# EAGLE library part 653008117322 (library Wire-to-Board (rev18a))
WR-WTB 1.25mm Male Horizontal Shrouded Header, 8 Pins=>Code : Con_WTB_1.25_PCB_THT_653008117322 <http://katalog.we-online.de/media/thumbs2/eican/thb_Con_WTB_1.25_PCB_THT_6530xx117322_pf2.jpg> Details see: http://katalog.we-online.de/en/em/WTB_1_25_MALE_HORIZONTAL_SHROUDED_HEADER_6530XX117322 Created 2014-06-06, Karrer Zheng 2014 (C) Würth Elektronik
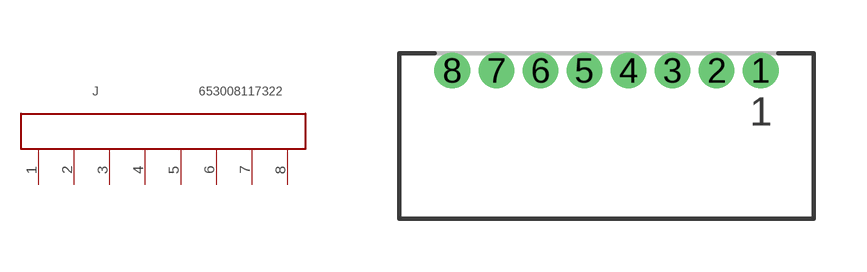
[diagram p88: symbol with the pads of 653008117322; footprint 653008117322]

Designator prefix J

## 653008117322  [653008117322]
1  8  pas
2  7  pas
3  6  pas
4  5  pas
5  4  pas
6  3  pas
7  2  pas
8  1  pas

## Footprint 653008117322 (pad centres in mm)
WR-WTB 1.25mm Male Horizontal Shrouded Header, 8 Pins
drill 0.5: 1 4.375,0; 2 3.125,0; 3 1.875,0; 4 0.625,0; 5 -0.625,0; 6 -1.875,0; 7 -3.125,0; 8 -4.375,0